# Altium footprint library SMD_size_B.PcbLib: 1 footprints
Each footprint in its own frame and in the unit in brackets; x right, y up, seen from the top. Pads: shape width x height; smd on the part's side, far side on the other; paste and mask are expansions set on the pad; w line width, h text height; cw(c..) or ccw(c..) is an arc to the next point about the centre after c.
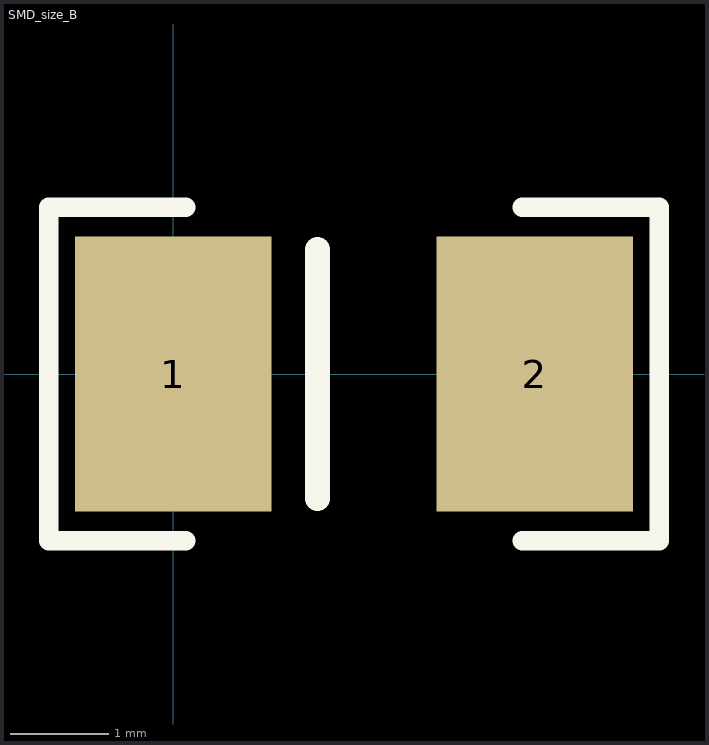
[diagram p0: the footprint, top view; thin cyan lines are the x and y axes]

## SMD_size_B [mm]
pads (2):
  rect 2x2.8 smd: 1(0,0) 2(3.683,0)
Top Overlay:
  lines w0.2: 0.127,-1.7 -1.27,-1.7 -1.27,1.7 0.127,1.7 ; 3.556,-1.7 4.953,-1.7 4.953,1.7 3.556,1.7
  lines w0.254: 1.47,-1.27 1.47,1.27
3D body "SMD_CaseB_3528-21.step": height 1.9, standoff 0, extent 0.1,-1.4 3.6,1.4